# EAGLE library part 00SPEEDY_EP7_SMD_8PIN (library Wurth Electronics Midcom Inc V1-0)
Package Style: Speedy EP7 Mounting: SMD Pins: 8 pins Bobbin: 070-4436 Best pinouts for production vary per application. Please contact Wurth Electronics Midcom, Inc. for assistance with your custom design. Website: Wurth Electronics Midcom <http://www.we-online.com/midcom> Contact us Wurth Electronics Midcom, Inc. 121 Airport Dr. Watertown, SD 57201 Phone: (605) 886-4385 Fax: (605) 886-4486 E-Mail: midcom@we-online.com
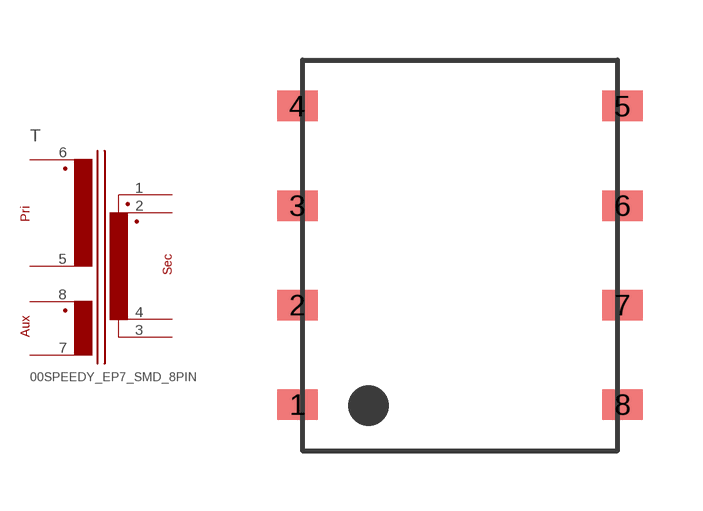
[diagram p120: symbol with the pads of 00SPEEDY_EP7_SMD_8PIN; footprint 00SPEEDY_EP7_SMD_8PIN]

Designator prefix T

## 00SPEEDY_EP7_SMD_8PIN  [00SPEEDY_EP7_SMD_8PIN]
1  5  pas
2  7  pas
3  6  pas
4  8  pas
5  2  pas
6  1  pas
7  4  pas
8  3  pas

## Footprint 00SPEEDY_EP7_SMD_8PIN (pad centres in mm)
Package Style: Speedy EP7 Mounting: SMD Pins: 8 pins Bobbin: 070-4436
smd 1.016 x 0.762: 1 -4.064,-3.734; 2 -4.064,-1.245; 3 -4.064,1.245; 4 -4.064,3.734; 5 4.064,3.734; 6 4.064,1.245; 7 4.064,-1.245; 8 4.064,-3.734